# Altium schematic symbol library Regulators.SchLib: 376 symbols (part 3 of 4)
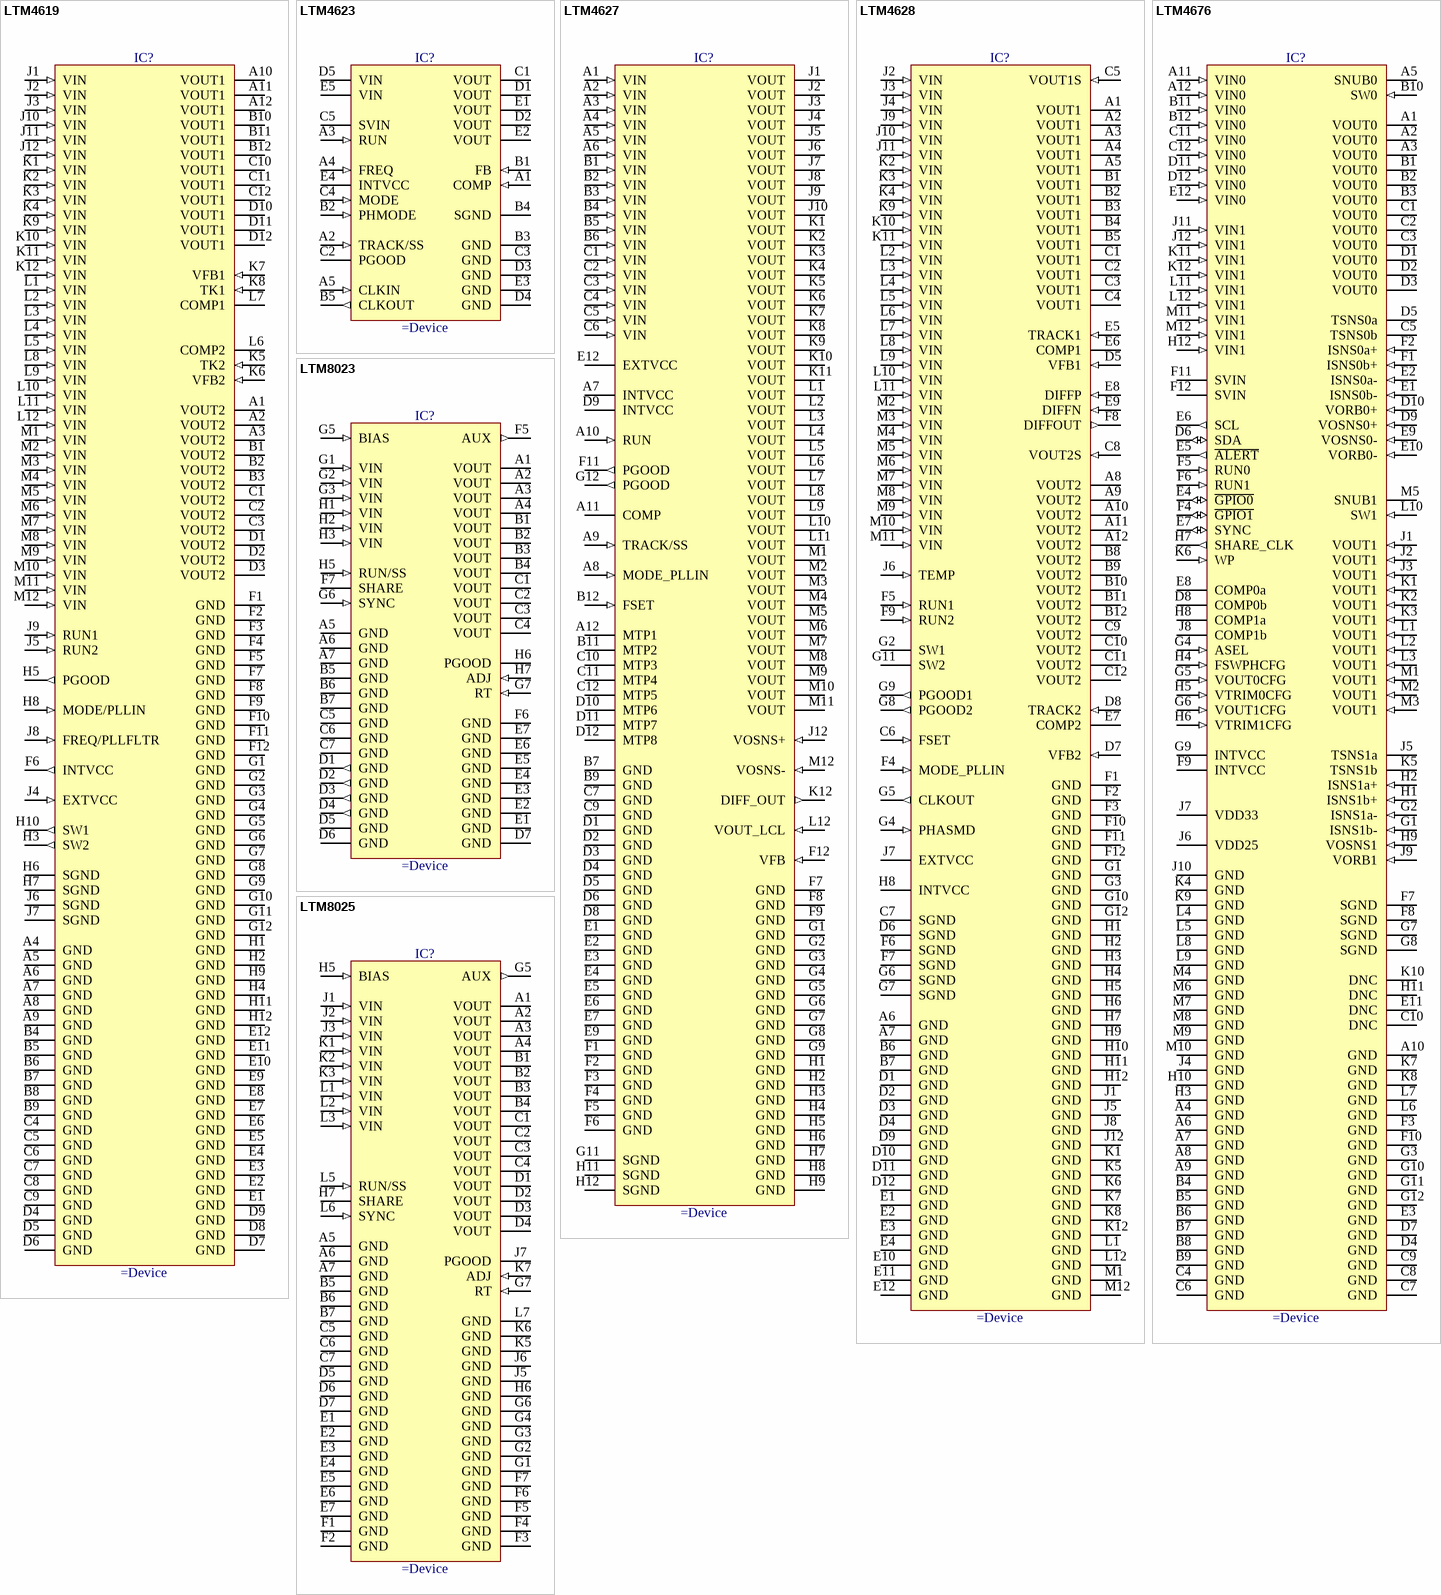
[diagram p14: symbols LTM4619 to LTM8025]

## LTM4628
designator IC?
4.5V-26.5V To 0.6V-5V, Dual 8A or Single 16A DC/DC μModule Regulator
pins: A1 VOUT1 (power) "Power Output Pins. Apply output load between these pins and GND pins. Recommend placing output decoupling capacitance directly between these pins and GND pins.", A2 VOUT1 (power) "Power Output Pins. Apply output load between these pins and GND pins. Recommend placing output decoupling capacitance directly between these pins and GND pins.", A3 VOUT1 (power) "Power Output Pins. Apply output load between these pins and GND pins. Recommend placing output decoupling capacitance directly between these pins and GND pins.", A4 VOUT1 (power) "Power Output Pins. Apply output load between these pins and GND pins. Recommend placing output decoupling capacitance directly between these pins and GND pins.", A5 VOUT1 (power) "Power Output Pins. Apply output load between these pins and GND pins. Recommend placing output decoupling capacitance directly between these pins and GND pins.", A6 GND (power) "Power Ground Pins for Both Input and Output Returns.", A7 GND (power) "Power Ground Pins for Both Input and Output Returns.", A8 VOUT2 (power) "Power Output Pins. Apply output load between these pins and GND pins. Recommend placing output decoupling capacitance directly between these pins and GND pins.", A9 VOUT2 (power) "Power Output Pins. Apply output load between these pins and GND pins. Recommend placing output decoupling capacitance directly between these pins and GND pins.", A10 VOUT2 (power) "Power Output Pins. Apply output load between these pins and GND pins. Recommend placing output decoupling capacitance directly between these pins and GND pins.", A11 VOUT2 (power) "Power Output Pins. Apply output load between these pins and GND pins. Recommend placing output decoupling capacitance directly between these pins and GND pins.", A12 VOUT2 (power) "Power Output Pins. Apply output load between these pins and GND pins. Recommend placing output decoupling capacitance directly between these pins and GND pins.", B1 VOUT1 (power) "Power Output Pins. Apply output load between these pins and GND pins. Recommend placing output decoupling capacitance directly between these pins and GND pins.", B2 VOUT1 (power) "Power Output Pins. Apply output load between these pins and GND pins. Recommend placing output decoupling capacitance directly between these pins and GND pins.", B3 VOUT1 (power) "Power Output Pins. Apply output load between these pins and GND pins. Recommend placing output decoupling capacitance directly between these pins and GND pins.", B4 VOUT1 (power) "Power Output Pins. Apply output load between these pins and GND pins. Recommend placing output decoupling capacitance directly between these pins and GND pins.", B5 VOUT1 (power) "Power Output Pins. Apply output load between these pins and GND pins. Recommend placing output decoupling capacitance directly between these pins and GND pins.", B6 GND (power) "Power Ground Pins for Both Input and Output Returns.", B7 GND (power) "Power Ground Pins for Both Input and Output Returns.", B8 VOUT2 (power) "Power Output Pins. Apply output load between these pins and GND pins. Recommend placing output decoupling capacitance directly between these pins and GND pins.", B9 VOUT2 (power) "Power Output Pins. Apply output load between these pins and GND pins. Recommend placing output decoupling capacitance directly between these pins and GND pins.", B10 VOUT2 (power) "Power Output Pins. Apply output load between these pins and GND pins. Recommend placing output decoupling capacitance directly between these pins and GND pins.", B11 VOUT2 (power) "Power Output Pins. Apply output load between these pins and GND pins. Recommend placing output decoupling capacitance directly between these pins and GND pins.", B12 VOUT2 (power) "Power Output Pins. Apply output load between these pins and GND pins. Recommend placing output decoupling capacitance directly between these pins and GND pins.", C1 VOUT1 (power) "Power Output Pins. Apply output load between these pins and GND pins. Recommend placing output decoupling capacitance directly between these pins and GND pins.", C2 VOUT1 (power) "Power Output Pins. Apply output load between these pins and GND pins. Recommend placing output decoupling capacitance directly between these pins and GND pins.", C3 VOUT1 (power) "Power Output Pins. Apply output load between these pins and GND pins. Recommend placing output decoupling capacitance directly between these pins and GND pins.", C4 VOUT1 (power) "Power Output Pins. Apply output load between these pins and GND pins. Recommend placing output decoupling capacitance directly between these pins and GND pins.", C5 VOUT1S (in) "This pin is connected to the top of the internal top feedback resistor for each output. The pin can be directly connected to its specific output, or connected to DIFFOUT when the remote sense amplifier is used. In (See Datasheet)", C6 FSET (in) "Frequency Set Pin. A 10uA current is sourced from this pin. A resistor from this pin to ground sets a voltage that in turn programs the operating frequency. Alternatively, this pin can be driven with a DC voltage that can (See Datasheet)", C7 SGND (power) "Signal Ground Pin. Return ground path for all analog and low power circuitry. Tie a single connection to the output capacitor GND in the application.", C8 VOUT2S (in) "This pin is connected to the top of the internal top feedback resistor for each output. The pin can be directly connected to its specific output, or connected to DIFFOUT when the remote sense amplifier is used. In (See Datasheet)", C9 VOUT2 (power) "Power Output Pins. Apply output load between these pins and GND pins. Recommend placing output decoupling capacitance directly between these pins and GND pins.", C10 VOUT2 (power) "Power Output Pins. Apply output load between these pins and GND pins. Recommend placing output decoupling capacitance directly between these pins and GND pins.", C11 VOUT2 (power) "Power Output Pins. Apply output load between these pins and GND pins. Recommend placing output decoupling capacitance directly between these pins and GND pins.", C12 VOUT2 (power) "Power Output Pins. Apply output load between these pins and GND pins. Recommend placing output decoupling capacitance directly between these pins and GND pins.", D1 GND (power) "Power Ground Pins for Both Input and Output Returns.", D2 GND (power) "Power Ground Pins for Both Input and Output Returns.", D3 GND (power) "Power Ground Pins for Both Input and Output Returns.", D4 GND (power) "Power Ground Pins for Both Input and Output Returns.", D5 VFB1 (in) "The Negative Input of the Error Amplifier for Each Channel. Internally, this pin is connected to VOUTS1 or VOUTS2 with a 60.4kohm precision resistor. Different output voltages can be programmed with an additional resistor (See Datasheet)", D6 SGND (power) "Signal Ground Pin. Return ground path for all analog and low power circuitry. Tie a single connection to the output capacitor GND in the application.", D7 VFB2 (in) "The Negative Input of the Error Amplifier for Each Channel. Internally, this pin is connected to VOUTS1 or VOUTS2 with a 60.4kohm precision resistor. Different output voltages can be programmed with an additional resistor (See Datasheet)", D8 TRACK2 (in) "Output Voltage Tracking Pin and Soft-Start Inputs. Each channel has a 1.3uA pull-up current source. When one channel is configured to be master of the two channels, then a capacitor from this pin to ground will set a (See Datasheet)", D9 GND (power) "Power Ground Pins for Both Input and Output Returns.", D10 GND (power) "Power Ground Pins for Both Input and Output Returns.", D11 GND (power) "Power Ground Pins for Both Input and Output Returns.", D12 GND (power) "Power Ground Pins for Both Input and Output Returns.", E1 GND (power) "Power Ground Pins for Both Input and Output Returns.", E2 GND (power) "Power Ground Pins for Both Input and Output Returns.", E3 GND (power) "Power Ground Pins for Both Input and Output Returns.", E4 GND (power) "Power Ground Pins for Both Input and Output Returns.", E5 TRACK1 (in) "Output Voltage Tracking Pin and Soft-Start Inputs. Each channel has a 1.3uA pull-up current source. When one channel is configured to be master of the two channels, then a capacitor from this pin to ground will set a (See Datasheet)", E6 COMP1 "Current control threshold and error amplifier compensation point for each channel. The current comparator threshold increases with this control voltage. Tie the COMP pins together for parallel operation. The device is (See Datasheet)", E7 COMP2 "Current control threshold and error amplifier compensation point for each channel. The current comparator threshold increases with this control voltage. Tie the COMP pins together for parallel operation. The device is (See Datasheet)", E8 DIFFP (in) "Positive input of the remote sense amplifier. This pin is connected to the remote sense point of the output voltage. See the Applications Information section.", E9 DIFFN (in) "Negative input of the remote sense amplifier. This pin is connected to the remote sense point of the output GND. See the Applications Information section.", E10 GND (power) "Power Ground Pins for Both Input and Output Returns.", E11 GND (power) "Power Ground Pins for Both Input and Output Returns.", E12 GND (power) "Power Ground Pins for Both Input and Output Returns.", F1 GND (power) "Power Ground Pins for Both Input and Output Returns.", F2 GND (power) "Power Ground Pins for Both Input and Output Returns.", F3 GND (power) "Power Ground Pins for Both Input and Output Returns.", F4 MODE_PLLIN (in) "Force Continuous Mode, Burst Mode Operation, or Pulse-Skipping Mode Selection Pin and External Synchronization Input to Phase Detector Pin. Connect this pin to SGND to force both channels into force continuous mode of (See Datasheet)", F5 RUN1 (in) "Run Control Pin. A voltage above 1.25V will turn on each channel in the module. A voltage below 1.25V on the RUN pin will turn off the related channel. Each RUN pin has a 1uA pull-up current, once the RUN pin reaches 1.2V an (See Datasheet)", F6 SGND (power) "Signal Ground Pin. Return ground path for all analog and low power circuitry. Tie a single connection to the output capacitor GND in the application.", F7 SGND (power) "Signal Ground Pin. Return ground path for all analog and low power circuitry. Tie a single connection to the output capacitor GND in the application.", F8 DIFFOUT (out) "Internal Remote Sense Amplifier Output. Connect this pin to VOUTS1 or VOUTS2 depending on which output is using remote sense. In parallel operation connect one of the VOUTS pin to DIFFOUT for remote sensing.", F9 RUN2 (in) "Run Control Pin. A voltage above 1.25V will turn on each channel in the module. A voltage below 1.25V on the RUN pin will turn off the related channel. Each RUN pin has a 1uA pull-up current, once the RUN pin reaches 1.2V an (See Datasheet)", F10 GND (power) "Power Ground Pins for Both Input and Output Returns.", F11 GND (power) "Power Ground Pins for Both Input and Output Returns.", F12 GND (power) "Power Ground Pins for Both Input and Output Returns.", G1 GND (power) "Power Ground Pins for Both Input and Output Returns.", G2 SW1 "Switching node of each channel that is used for testing purposes. Also an R-C snubber network can be applied to reduce or eliminate switch node ringing, or otherwise leave floating. See the Applications Information section.", G3 GND (power) "Power Ground Pins for Both Input and Output Returns.", G4 PHASMD (in) "Connect this pin to SGND, INTVCC, or floating this pin to select the phase of CLKOUT to 60 degrees, 120 degrees, and 90 degrees respectively.", G5 CLKOUT (out) "Clock output with phase control using the PHASMD pin to enable multiphase operation between devices. See the Applications Information section.", G6 SGND (power) "Signal Ground Pin. Return ground path for all analog and low power circuitry. Tie a single connection to the output capacitor GND in the application.", G7 SGND (power) "Signal Ground Pin. Return ground path for all analog and low power circuitry. Tie a single connection to the output capacitor GND in the application.", G8 PGOOD2 (out) "Output Voltage Power Good Indicator.", G9 PGOOD1 (out) "Output Voltage Power Good Indicator.", G10 GND (power) "Power Ground Pins for Both Input and Output Returns.", G11 SW2 "Switching node of each channel that is used for testing purposes. Also an R-C snubber network can be applied to reduce or eliminate switch node ringing, or otherwise leave floating. See the Applications Information section.", G12 GND (power) "Power Ground Pins for Both Input and Output Returns.", H1 GND (power) "Power Ground Pins for Both Input and Output Returns.", H2 GND (power) "Power Ground Pins for Both Input and Output Returns.", H3 GND (power) "Power Ground Pins for Both Input and Output Returns.", H4 GND (power) "Power Ground Pins for Both Input and Output Returns.", H5 GND (power) "Power Ground Pins for Both Input and Output Returns.", H6 GND (power) "Power Ground Pins for Both Input and Output Returns.", H7 GND (power) "Power Ground Pins for Both Input and Output Returns.", H8 INTVCC (power) "Internal 5V Regulator Output. The control circuits and internal gate drivers are powered from this voltage. Decouple this pin to PGND with a 4.7uF low ESR tantalum or ceramic. INTVCC is activated when either RUN1 or RUN2 is (See Datasheet)", H9 GND (power) "Power Ground Pins for Both Input and Output Returns.", H10 GND (power) "Power Ground Pins for Both Input and Output Returns.", H11 GND (power) "Power Ground Pins for Both Input and Output Returns.", H12 GND (power) "Power Ground Pins for Both Input and Output Returns.", J1 GND (power) "Power Ground Pins for Both Input and Output Returns.", J2 VIN (in) "Power Input Pins. Apply input voltage between these pins and GND pins. Recommend placing input decoupling capacitance directly between VIN pins and GND pins.", J3 VIN (in) "Power Input Pins. Apply input voltage between these pins and GND pins. Recommend placing input decoupling capacitance directly between VIN pins and GND pins.", J4 VIN (in) "Power Input Pins. Apply input voltage between these pins and GND pins. Recommend placing input decoupling capacitance directly between VIN pins and GND pins.", J5 GND (power) "Power Ground Pins for Both Input and Output Returns.", J6 TEMP (in) "Onboard Temperature Diode for Monitoring the VBE Junction Voltage Change with Temperature. See the Applications Information section.", J7 EXTVCC (power) "External power input that is enabled through a switch to INTVCC whenever EXTVCC is greater than 4.7V. Do not exceed 6V on this input, and connect this pin to VIN when operating VIN on 5V. An efficiency increase will occur (See Datasheet)", J8 GND (power) "Power Ground Pins for Both Input and Output Returns.", J9 VIN (in) "Power Input Pins. Apply input voltage between these pins and GND pins. Recommend placing input decoupling capacitance directly between VIN pins and GND pins.", J10 VIN (in) "Power Input Pins. Apply input voltage between these pins and GND pins. Recommend placing input decoupling capacitance directly between VIN pins and GND pins.", J11 VIN (in) "Power Input Pins. Apply input voltage between these pins and GND pins. Recommend placing input decoupling capacitance directly between VIN pins and GND pins.", J12 GND (power) "Power Ground Pins for Both Input and Output Returns.", K1 GND (power) "Power Ground Pins for Both Input and Output Returns.", K2 VIN (in) "Power Input Pins. Apply input voltage between these pins and GND pins. Recommend placing input decoupling capacitance directly between VIN pins and GND pins.", K3 VIN (in) "Power Input Pins. Apply input voltage between these pins and GND pins. Recommend placing input decoupling capacitance directly between VIN pins and GND pins.", K4 VIN (in) "Power Input Pins. Apply input voltage between these pins and GND pins. Recommend placing input decoupling capacitance directly between VIN pins and GND pins.", K5 GND (power) "Power Ground Pins for Both Input and Output Returns.", K6 GND (power) "Power Ground Pins for Both Input and Output Returns.", K7 GND (power) "Power Ground Pins for Both Input and Output Returns.", K8 GND (power) "Power Ground Pins for Both Input and Output Returns.", K9 VIN (in) "Power Input Pins. Apply input voltage between these pins and GND pins. Recommend placing input decoupling capacitance directly between VIN pins and GND pins.", K10 VIN (in) "Power Input Pins. Apply input voltage between these pins and GND pins. Recommend placing input decoupling capacitance directly between VIN pins and GND pins.", K11 VIN (in) "Power Input Pins. Apply input voltage between these pins and GND pins. Recommend placing input decoupling capacitance directly between VIN pins and GND pins.", K12 GND (power) "Power Ground Pins for Both Input and Output Returns.", L1 GND (power) "Power Ground Pins for Both Input and Output Returns.", L2 VIN (in) "Power Input Pins. Apply input voltage between these pins and GND pins. Recommend placing input decoupling capacitance directly between VIN pins and GND pins.", L3 VIN (in) "Power Input Pins. Apply input voltage between these pins and GND pins. Recommend placing input decoupling capacitance directly between VIN pins and GND pins.", L4 VIN (in) "Power Input Pins. Apply input voltage between these pins and GND pins. Recommend placing input decoupling capacitance directly between VIN pins and GND pins.", L5 VIN (in) "Power Input Pins. Apply input voltage between these pins and GND pins. Recommend placing input decoupling capacitance directly between VIN pins and GND pins.", L6 VIN (in) "Power Input Pins. Apply input voltage between these pins and GND pins. Recommend placing input decoupling capacitance directly between VIN pins and GND pins.", L7 VIN (in) "Power Input Pins. Apply input voltage between these pins and GND pins. Recommend placing input decoupling capacitance directly between VIN pins and GND pins.", L8 VIN (in) "Power Input Pins. Apply input voltage between these pins and GND pins. Recommend placing input decoupling capacitance directly between VIN pins and GND pins.", L9 VIN (in) "Power Input Pins. Apply input voltage between these pins and GND pins. Recommend placing input decoupling capacitance directly between VIN pins and GND pins.", L10 VIN (in) "Power Input Pins. Apply input voltage between these pins and GND pins. Recommend placing input decoupling capacitance directly between VIN pins and GND pins.", L11 VIN (in) "Power Input Pins. Apply input voltage between these pins and GND pins. Recommend placing input decoupling capacitance directly between VIN pins and GND pins.", L12 GND (power) "Power Ground Pins for Both Input and Output Returns.", M1 GND (power) "Power Ground Pins for Both Input and Output Returns.", M2 VIN (in) "Power Input Pins. Apply input voltage between these pins and GND pins. Recommend placing input decoupling capacitance directly between VIN pins and GND pins.", M3 VIN (in) "Power Input Pins. Apply input voltage between these pins and GND pins. Recommend placing input decoupling capacitance directly between VIN pins and GND pins.", M4 VIN (in) "Power Input Pins. Apply input voltage between these pins and GND pins. Recommend placing input decoupling capacitance directly between VIN pins and GND pins.", M5 VIN (in) "Power Input Pins. Apply input voltage between these pins and GND pins. Recommend placing input decoupling capacitance directly between VIN pins and GND pins.", M6 VIN (in) "Power Input Pins. Apply input voltage between these pins and GND pins. Recommend placing input decoupling capacitance directly between VIN pins and GND pins.", M7 VIN (in) "Power Input Pins. Apply input voltage between these pins and GND pins. Recommend placing input decoupling capacitance directly between VIN pins and GND pins.", M8 VIN (in) "Power Input Pins. Apply input voltage between these pins and GND pins. Recommend placing input decoupling capacitance directly between VIN pins and GND pins.", M9 VIN (in) "Power Input Pins. Apply input voltage between these pins and GND pins. Recommend placing input decoupling capacitance directly between VIN pins and GND pins.", M10 VIN (in) "Power Input Pins. Apply input voltage between these pins and GND pins. Recommend placing input decoupling capacitance directly between VIN pins and GND pins.", M11 VIN (in) "Power Input Pins. Apply input voltage between these pins and GND pins. Recommend placing input decoupling capacitance directly between VIN pins and GND pins.", M12 GND (power) "Power Ground Pins for Both Input and Output Returns."

## LTM4676
designator IC?
4.5V-26.5V To 0.5V-5.4V, Dual 13A or Single 26A uModule Regulator with Digital Power System Management
pins: A1 VOUT0 (power), A2 VOUT0 (power), A3 VOUT0 (power), A4 GND (power), A5 SNUB0, A6 GND (power), A7 GND (power), A8 GND (power), A9 GND (power), A10 GND (power), A11 VIN0 (in), A12 VIN0 (in), B1 VOUT0 (power), B2 VOUT0 (power), B3 VOUT0 (power), B4 GND (power), B5 GND (power), B6 GND (power), B7 GND (power), B8 GND (power), B9 GND (power), B10 SW0 (in), B11 VIN0 (in), B12 VIN0 (in), C1 VOUT0 (power), C2 VOUT0 (power), C3 VOUT0 (power), C4 GND (power), C5 TSNS0b, C6 GND (power), C7 GND (power), C8 GND (power), C9 GND (power), C10 DNC, C11 VIN0 (in), C12 VIN0 (in), D1 VOUT0 (power), D2 VOUT0 (power), D3 VOUT0 (power), D4 GND (power), D5 TSNS0a, D6 SDA (io), D7 GND (power), D8 COMP0b, D9 VOSNS0+ (in), D10 VORB0+ (in), D11 VIN0 (in), D12 VIN0 (in), E1 ISNS0b- (in), E2 ISNS0a- (in), E3 GND (power), E4 ~{GPIO0} (io), E5 ~{ALERT} (out), E6 SCL (out), E7 SYNC (io), E8 COMP0a, E9 VOSNS0- (in), E10 VORB0- (in), E11 DNC, E12 VIN0 (in), F1 ISNS0b+ (in), F2 ISNS0a+ (in), F3 GND (power), F4 ~{GPIO1} (io), F5 RUN0 (in), F6 RUN1 (in), F7 SGND (power), F8 SGND (power), F9 INTVCC (power), F10 GND (power), F11 SVIN (power), F12 SVIN (power), G1 ISNS1b- (in), G2 ISNS1a- (in), G3 GND (power), G4 ASEL (in), G5 VOUT0CFG (in), G6 VOUT1CFG (in), G7 SGND (power), G8 SGND (power), G9 INTVCC (power), G10 GND (power), G11 GND (power), G12 GND (power), H1 ISNS1b+ (in), H2 ISNS1a+ (in), H3 GND (power), H4 FSWPHCFG (in), H5 VTRIM0CFG (in), H6 VTRIM1CFG (in), H7 SHARE_CLK (out), H8 COMP1a, H9 VOSNS1 (in), H10 GND (power), H11 DNC, H12 VIN1 (in), J1 VOUT1 (in), J2 VOUT1 (in), J3 VOUT1 (in), J4 GND (power), J5 TSNS1a, J6 VDD25 (power), J7 VDD33 (power), J8 COMP1b, J9 VORB1 (in), J10 GND (power), J11 VIN1 (in), J12 VIN1 (in), K1 VOUT1 (in), K2 VOUT1 (in), K3 VOUT1 (in), K4 GND (power), K5 TSNS1b, K6 WP (in), K7 GND (power), K8 GND (power), K9 GND (power), K10 DNC, K11 VIN1 (in), K12 VIN1 (in), L1 VOUT1 (in), L2 VOUT1 (in), L3 VOUT1 (in), L4 GND (power), L5 GND (power), L6 GND (power), L7 GND (power), L8 GND (power), L9 GND (power), L10 SW1 (in), L11 VIN1 (in), L12 VIN1 (in), M1 VOUT1 (in), M2 VOUT1 (in), M3 VOUT1 (in), M4 GND (power), M5 SNUB1, M6 GND (power), M7 GND (power), M8 GND (power), M9 GND (power), M10 GND (power), M11 VIN1 (in), M12 VIN1 (in)

## LTM8023
designator IC?
3.6V-36V To 0.8V-10V, Iout 2A DC/DC uModule
pins: A1 VOUT (power), A2 VOUT (power), A3 VOUT (power), A4 VOUT (power), A5 GND (power), A6 GND (power), A7 GND (power), B1 VOUT (power), B2 VOUT (power), B3 VOUT (power), B4 VOUT (power), B5 GND (power), B6 GND (power), B7 GND (power), C1 VOUT (power), C2 VOUT (power), C3 VOUT (power), C4 VOUT (power), C5 GND (power), C6 GND (power), C7 GND (power), D1 GND (out), D2 GND (out), D3 GND (out), D4 GND (out), D5 GND (power), D6 GND (power), D7 GND (power), E1 GND (power), E2 GND (power), E3 GND (power), E4 GND (power), E5 GND (power), E6 GND (power), E7 GND (power), F5 AUX (out), F6 GND (power), F7 SHARE, G1 VIN (in), G2 VIN (in), G3 VIN (in), G5 BIAS (in), G6 SYNC (in), G7 RT (in), H1 VIN (in), H2 VIN (in), H3 VIN (in), H5 RUN/SS (in), H6 PGOOD (oc), H7 ADJ (in)

## LTM8025
designator IC?
3.6V-36V To 0.8V-24V, Iout 3A Step Down uModule® Converter
pins: A1 VOUT (power), A2 VOUT (power), A3 VOUT (power), A4 VOUT (power), A5 GND (power), A6 GND (power), A7 GND (power), B1 VOUT (power), B2 VOUT (power), B3 VOUT (power), B4 VOUT (power), B5 GND (power), B6 GND (power), B7 GND (power), C1 VOUT (power), C2 VOUT (power), C3 VOUT (power), C4 VOUT (power), C5 GND (power), C6 GND (power), C7 GND (power), D1 VOUT (power), D2 VOUT (power), D3 VOUT (power), D4 VOUT (power), D5 GND (power), D6 GND (power), D7 GND (power), E1 GND (power), E2 GND (power), E3 GND (power), E4 GND (power), E5 GND (power), E6 GND (power), E7 GND (power), F1 GND (power), F2 GND (power), F3 GND (power), F4 GND (power), F5 GND (power), F6 GND (power), F7 GND (power), G1 GND (power), G2 GND (power), G3 GND (power), G4 GND (power), G5 AUX (out), G6 GND (power), G7 RT (in), H5 BIAS (in), H6 GND (power), H7 SHARE, J1 VIN (in), J2 VIN (in), J3 VIN (in), J5 GND (power), J6 GND (power), J7 PGOOD (oc), K1 VIN (in), K2 VIN (in), K3 VIN (in), K5 GND (power), K6 GND (power), K7 ADJ (in), L1 VIN (in), L2 VIN (in), L3 VIN (in), L5 RUN/SS (in), L6 SYNC (in), L7 GND (power)

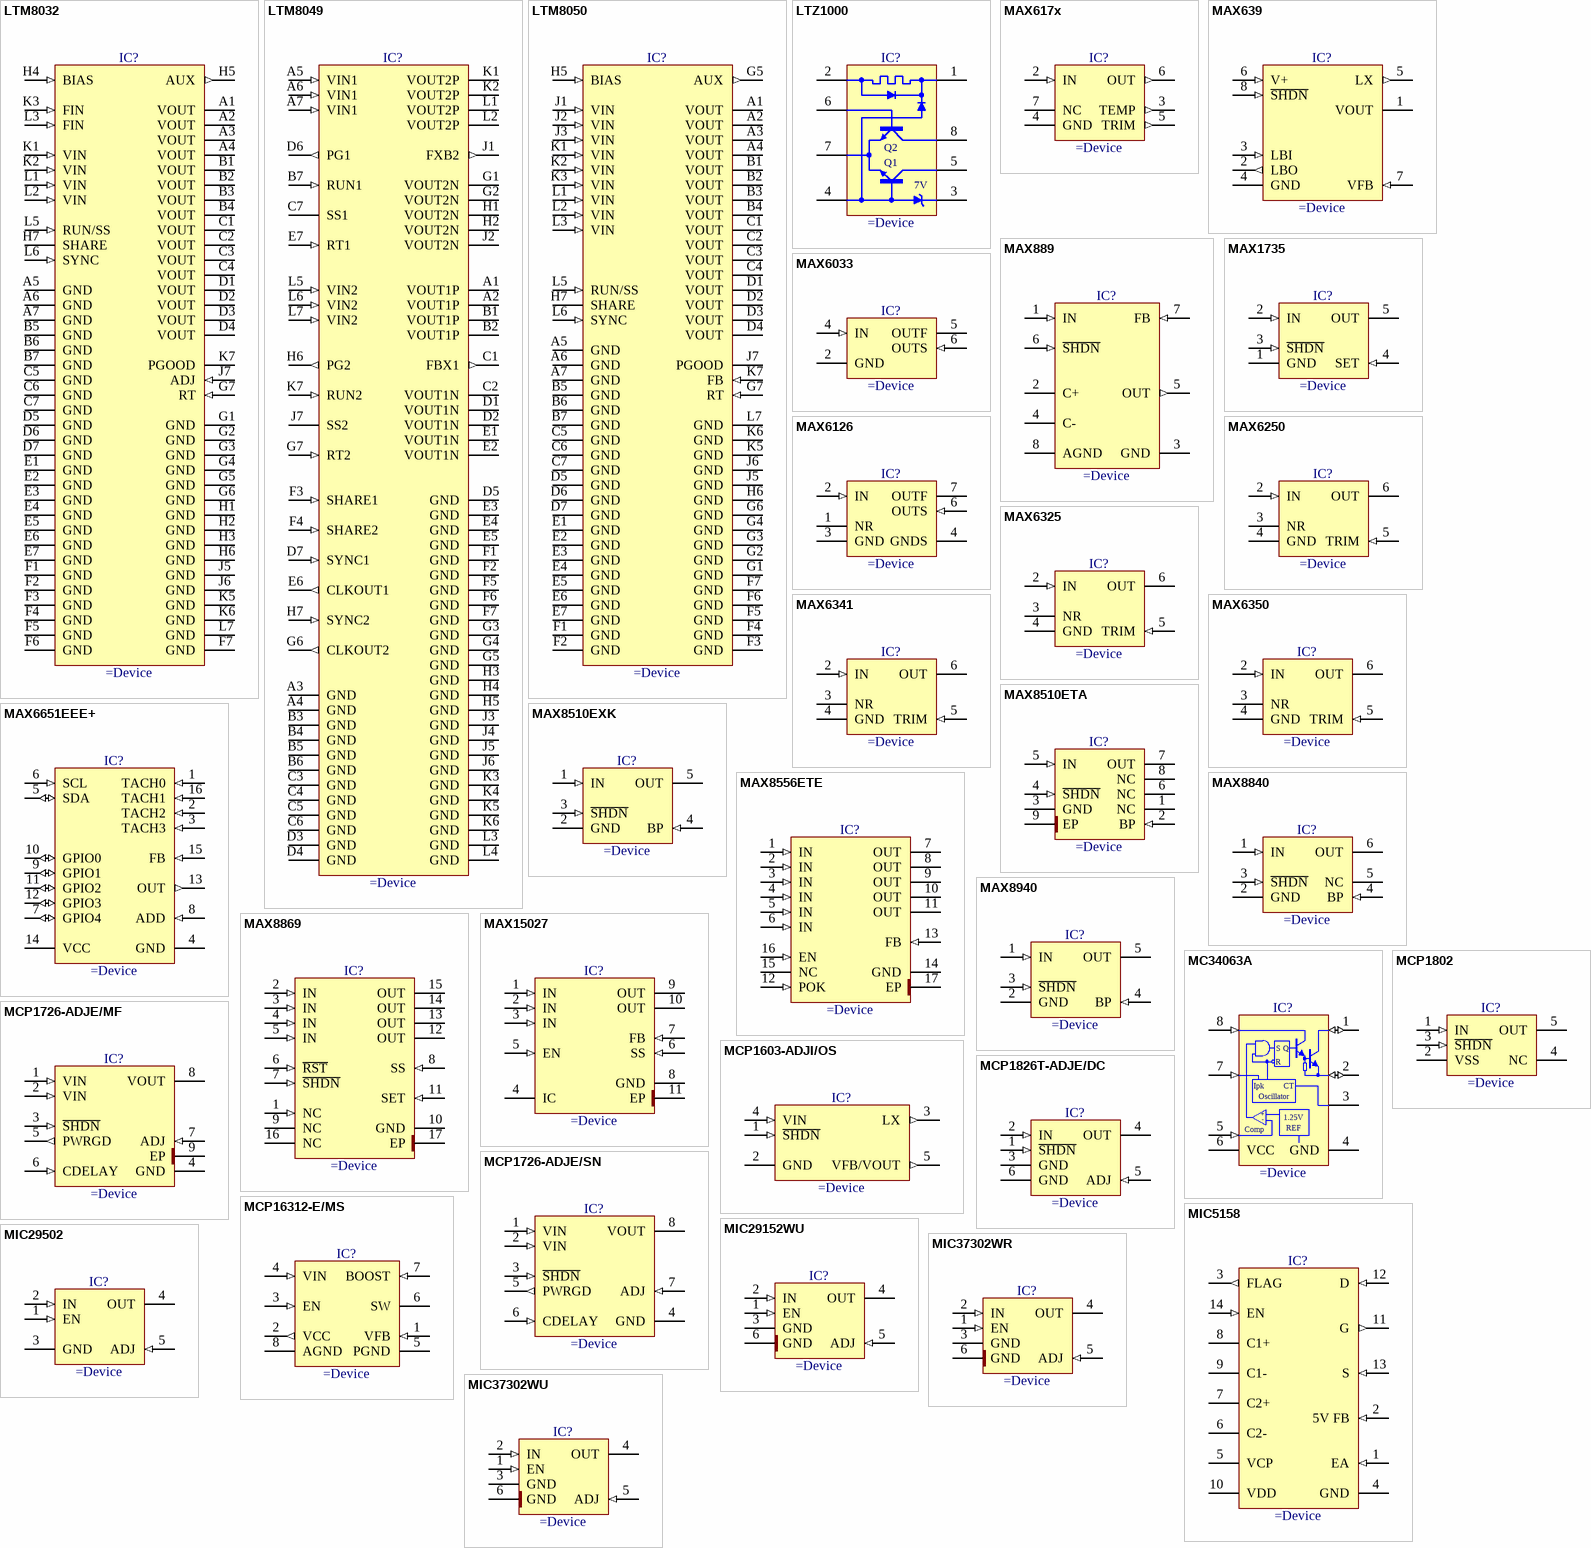
[diagram p7: symbols LTM8032 to MIC37302WU]

## LTM8032
designator IC?
3V-36V To 0.8V-10V, Iout 2A Ultralow Noise EMC Compliant DC/DC uModule
pins: A1 VOUT (power), A2 VOUT (power), A3 VOUT (power), A4 VOUT (power), A5 GND (power), A6 GND (power), A7 GND (power), B1 VOUT (power), B2 VOUT (power), B3 VOUT (power), B4 VOUT (power), B5 GND (power), B6 GND (power), B7 GND (power), C1 VOUT (power), C2 VOUT (power), C3 VOUT (power), C4 VOUT (power), C5 GND (power), C6 GND (power), C7 GND (power), D1 VOUT (power), D2 VOUT (power), D3 VOUT (power), D4 VOUT (power), D5 GND (power), D6 GND (power), D7 GND (power), E1 GND (power), E2 GND (power), E3 GND (power), E4 GND (power), E5 GND (power), E6 GND (power), E7 GND (power), F1 GND (power), F2 GND (power), F3 GND (power), F4 GND (power), F5 GND (power), F6 GND (power), F7 GND (power), G1 GND (power), G2 GND (power), G3 GND (power), G4 GND (power), G5 GND (power), G6 GND (power), G7 RT (in), H1 GND (power), H2 GND (power), H3 GND (power), H4 BIAS (in), H5 AUX (out), H6 GND (power), H7 SHARE, J5 GND (power), J6 GND (power), J7 ADJ (in), K1 VIN (in), K2 VIN (in), K3 FIN (in), K5 GND (power), K6 GND (power), K7 PGOOD (oc), L1 VIN (in), L2 VIN (in), L3 FIN (in), L5 RUN/SS (in), L6 SYNC (in), L7 GND (power)

## LTM8049
designator IC?
Dual SEPIC or Inverting uModule DC/DC Converter
pins: A1 VOUT1P (power), A2 VOUT1P (power), A3 GND (power), A4 GND (power), A5 VIN1 (in), A6 VIN1 (in), A7 VIN1 (in), B1 VOUT1P (power), B2 VOUT1P (power), B3 GND (power), B4 GND (power), B5 GND (power), B6 GND (power), B7 RUN1 (in), C1 FBX1 (out), C2 VOUT1N (power), C3 GND (power), C4 GND (power), C5 GND (power), C6 GND (power), C7 SS1, D1 VOUT1N (power), D2 VOUT1N (power), D3 GND (power), D4 GND (power), D5 GND (power), D6 PG1 (out), D7 SYNC1 (in), E1 VOUT1N (power), E2 VOUT1N (power), E3 GND (power), E4 GND (power), E5 GND (power), E6 CLKOUT1 (out), E7 RT1 (in), F1 GND (power), F2 GND (power), F3 SHARE1 (in), F4 SHARE2 (in), F5 GND (power), F6 GND (power), F7 GND (power), G1 VOUT2N (power), G2 VOUT2N (power), G3 GND (power), G4 GND (power), G5 GND (power), G6 CLKOUT2 (out), G7 RT2 (in), H1 VOUT2N (power), H2 VOUT2N (power), H3 GND (power), H4 GND (power), H5 GND (power), H6 PG2 (out), H7 SYNC2 (in), J1 FXB2 (out), J2 VOUT2N (power), J3 GND (power), J4 GND (power), J5 GND (power), J6 GND (power), J7 SS2, K1 VOUT2P (power), K2 VOUT2P (power), K3 GND (power), K4 GND (power), K5 GND (power), K6 GND (power), K7 RUN2 (in), L1 VOUT2P (power), L2 VOUT2P (power), L3 GND (power), L4 GND (power), L5 VIN2 (in), L6 VIN2 (in), L7 VIN2 (in)

## LTM8050
designator IC?
58V, 2A Step-Down uModule Regulator
pins: A1 VOUT (power), A2 VOUT (power), A3 VOUT (power), A4 VOUT (power), A5 GND (power), A6 GND (power), A7 GND (power), B1 VOUT (power), B2 VOUT (power), B3 VOUT (power), B4 VOUT (power), B5 GND (power), B6 GND (power), B7 GND (power), C1 VOUT (power), C2 VOUT (power), C3 VOUT (power), C4 VOUT (power), C5 GND (power), C6 GND (power), C7 GND (power), D1 VOUT (power), D2 VOUT (power), D3 VOUT (power), D4 VOUT (power), D5 GND (power), D6 GND (power), D7 GND (power), E1 GND (power), E2 GND (power), E3 GND (power), E4 GND (power), E5 GND (power), E6 GND (power), E7 GND (power), F1 GND (power), F2 GND (power), F3 GND (power), F4 GND (power), F5 GND (power), F6 GND (power), F7 GND (power), G1 GND (power), G2 GND (power), G3 GND (power), G4 GND (power), G5 AUX (out), G6 GND (power), G7 RT (in), H5 BIAS (in), H6 GND (power), H7 SHARE, J1 VIN (in), J2 VIN (in), J3 VIN (in), J5 GND (power), J6 GND (power), J7 PGOOD (oc), K1 VIN (in), K2 VIN (in), K3 VIN (in), K5 GND (power), K6 GND (power), K7 FB (in), L1 VIN (in), L2 VIN (in), L3 VIN (in), L5 RUN/SS (in), L6 SYNC (in), L7 GND (power)

## LTZ1000
designator IC?
7V Ultra Precision Reference
pins: 1, 2, 3, 4, 5 (oc), 6, 7 (oe), 8 (oc)
text: Q2; Q1; 7V

## MAX617x
designator IC?
High-Precision Voltage Reference with Temperature Sensor
pins: 2 IN (in), 3 TEMP (out), 4 GND (power), 5 TRIM (out), 6 OUT (out), 7 NC

## MAX639
designator IC?
4V-11.5V To 5V, Iout 225mA, High-Efficiency, Low Iq, Step-Down DC-DC Converter
pins: 1 VOUT (power), 2 LBO (out), 3 LBI (in), 4 GND (power), 5 LX (out), 6 V+ (in), 7 VFB (in), 8 ~{SHDN} (in)

## MAX889
designator IC?
High-Frequency, Regulated, 200mA, Inverting Charge Pump
pins: 1 IN (in), 2 C+, 3 GND (power), 4 C-, 5 OUT (out), 6 ~{SHDN} (in), 7 FB (in), 8 AGND (power)

## MAX1735
designator IC?
200mA, Negative-Output, Low-Dropout Linear Regulator
pins: 1 GND (power), 2 IN (in), 3 ~{SHDN} (in), 4 SET (in), 5 OUT (power)

## MAX6033
designator IC?
Ultra-High-Precision Voltage References
pins: 2 GND (power), 4 IN (in), 5 OUTF (power), 6 OUTS (in)

## MAX6126
designator IC?
Ultra-High-Precision, Ultra-Low-Noise, Voltage Reference
pins: 1 NR, 2 IN (in), 3 GND (power), 4 GNDS (power), 6 OUTS (in), 7 OUTF (power)

## MAX6250
designator IC?
1ppm/°C, Low-Noise, Precision, +5.000V Voltage Reference
pins: 2 IN (in), 3 NR, 4 GND (power), 5 TRIM (in), 6 OUT (power)

## MAX6325
designator IC?
1ppm/°C, Low-Noise, +2.500V Voltage References
pins: 2 IN (in), 3 NR, 4 GND (power), 5 TRIM (in), 6 OUT (power)

## MAX6341
designator IC?
1ppm/°C, Low-Noise, +4.096V Voltage References
pins: 2 IN (in), 3 NR, 4 GND (power), 5 TRIM (in), 6 OUT (power)

## MAX6350
designator IC?
1ppm/°C, Low-Noise, +5.000V Voltage References
pins: 2 IN (in), 3 NR, 4 GND (power), 5 TRIM (in), 6 OUT (power)

## MAX6651EEE+
designator IC?
Fan-Speed Regulators and Monitors with SMBus/I²C-Compatible Interface
pins: 1 TACH0 (in), 2 TACH2 (in), 3 TACH3 (in), 4 GND (power), 5 SDA (io), 6 SCL (in), 7 GPIO4 (io), 8 ADD (in), 9 GPIO1 (io), 10 GPIO0 (io), 11 GPIO2 (io), 12 GPIO3 (io), 13 OUT (out), 14 VCC (power), 15 FB (in), 16 TACH1 (in)

## MAX8510ETA
designator IC?
Ultra-Low-Noise, High PSRR, Low-Dropout, 120mA Linear Regulator
pins: 1 NC, 2 BP (in), 3 GND (power), 4 ~{SHDN} (in), 5 IN (in), 6 NC, 7 OUT (power), 8 NC, 9 EP (power)

## MAX8510EXK
designator IC?
Ultra-Low-Noise, High PSRR, Low-Dropout, 120mA Linear Regulator
pins: 1 IN (in), 2 GND (power), 3 ~{SHDN} (in), 4 BP (in), 5 OUT (power)

## MAX8556ETE
designator IC?
4A Ultra-Low-Input-Voltage LDO Regulator
pins: 1 IN (in), 2 IN (in), 3 IN (in), 4 IN (in), 5 IN (in), 6 IN (in), 7 OUT (power), 8 OUT (power), 9 OUT (power), 10 OUT (power), 11 OUT (power), 12 POK (in), 13 FB (in), 14 GND (power), 15 NC, 16 EN (in), 17 EP (power)

## MAX8840
designator IC?
Low-Noise, High PSRR, Low-Dropout, 120mA Linear Regulator
pins: 1 IN (in), 2 GND (power), 3 ~{SHDN} (in), 4 BP (in), 5 NC, 6 OUT (power)

## MAX8869
designator IC?
1A, Microcap, Low-Dropout, Linear Regulator
pins: 1 NC (in), 2 IN (in), 3 IN (in), 4 IN (in), 5 IN (in), 6 ~{RST} (in), 7 ~{SHDN} (in), 8 SS (in), 9 NC, 10 GND (power), 11 SET (in), 12 OUT (power), 13 OUT (power), 14 OUT (power), 15 OUT (power), 16 NC, 17 EP (power)

## MAX8940
designator IC?
Low-Noise, High PSRR, Low-Dropout, 120mA Linear Regulator
pins: 1 IN (in), 2 GND (power), 3 ~{SHDN} (in), 4 BP (in), 5 OUT (power)

## MAX15027
designator IC?
1.425V to 3.6V Input, 1A Low-Dropout Regulators with BIAS Input
pins: 1 IN (in), 2 IN (in), 3 IN (in), 4 IC (power), 5 EN (in), 6 SS (in), 7 FB (in), 8 GND (power), 9 OUT (power), 10 OUT (power), 11 EP (power)

## MC34063A
designator IC?
3V to 40V 1.5A Peak Boost/Buck/Inverting Switching Regulator
pins: 1 SWC (io), 2 SWE (io), 3 TC, 4 GND (power), 5 COMP (in), 6 VCC (power), 7 Ipk (in), 8 DRVC (in)
text: S; Q; R; CT; Oscillator; +; -; 1.25V; Comp; REF

## MCP1603-ADJI/OS
designator IC?
0.8V to 4.5V, 500mA, 2.0 MHz, Adjustable Synchronous Buck Regulator
pins: 1 ~{SHDN} (in), 2 GND (power), 3 LX (out), 4 VIN (in), 5 VFB/VOUT (out)

## MCP1726-ADJE/MF
designator IC?
1A, 0.8V to 5.0V Adjustable , Low Quiescent Current LDO Regulator
pins: 1 VIN (in), 2 VIN (in), 3 ~{SHDN} (in), 4 GND (power), 5 PWRGD (out), 6 CDELAY (in), 7 ADJ (in), 8 VOUT (power), 9 EP (power)

## MCP1726-ADJE/SN
designator IC?
1A, 0.8V to 5.0V Adjustable , Low Quiescent Current LDO Regulator
pins: 1 VIN (in), 2 VIN (in), 3 ~{SHDN} (in), 4 GND (power), 5 PWRGD (out), 6 CDELAY (in), 7 ADJ (in), 8 VOUT (power)

## MCP1802
designator IC?
300mA, High PSRR, Low Quiescent Current LDO
pins: 1 IN (in), 2 VSS (power), 3 ~{SHDN} (in), 4 NC, 5 OUT (power)

## MCP1826T-ADJE/DC
designator IC?
0.8V to 5.0V, 1A Low Voltage, Low Quiescent Current, Adjustable Positive LDO Regulator
pins: 1 ~{SHDN} (in), 2 IN (in), 3 GND (power), 4 OUT (power), 5 ADJ (in), 6 GND (power)

## MCP16312-E/MS
designator IC?
30V Input, 1A Output, High-Efficiency, Integrated Synchronous Switch Step-Down Regulator
pins: 1 VFB (in), 2 VCC (out), 3 EN (in), 4 VIN (in), 5 PGND (power), 6 SW (power), 7 BOOST (in), 8 AGND (power)

## MIC5158
designator IC?
Super LDO Regulator Controller
pins: 1 EA (in), 2 5V FB (in), 3 FLAG (out), 4 GND (power), 5 VCP, 6 C2-, 7 C2+, 8 C1+, 9 C1-, 10 VDD (power), 11 G (out), 12 D (in), 13 S (in), 14 EN (in)

## MIC29152WU
designator IC?
1.25V to 26V, 1.5A Low Dropout Adjustable Regulator
pins: 1 EN (in), 2 IN (in), 3 GND (power), 4 OUT (power), 5 ADJ (in), 6 GND (power)

## MIC29502
designator IC?
1.25V to 26V Adjustable, 5A, High-Current Low-Dropout Regulator
pins: 1 EN (in), 2 IN (in), 3 GND (power), 4 OUT (power), 5 ADJ (in)

## MIC37302WR
designator IC?
3.0A Low Voltage µCap LDO Regulator
pins: 1 EN (in), 2 IN (in), 3 GND (power), 4 OUT (power), 5 ADJ (in), 6 GND (power)

## MIC37302WU
designator IC?
3.0A Low Voltage µCap LDO Regulator
pins: 1 EN (in), 2 IN (in), 3 GND (power), 4 OUT (power), 5 ADJ (in), 6 GND (power)

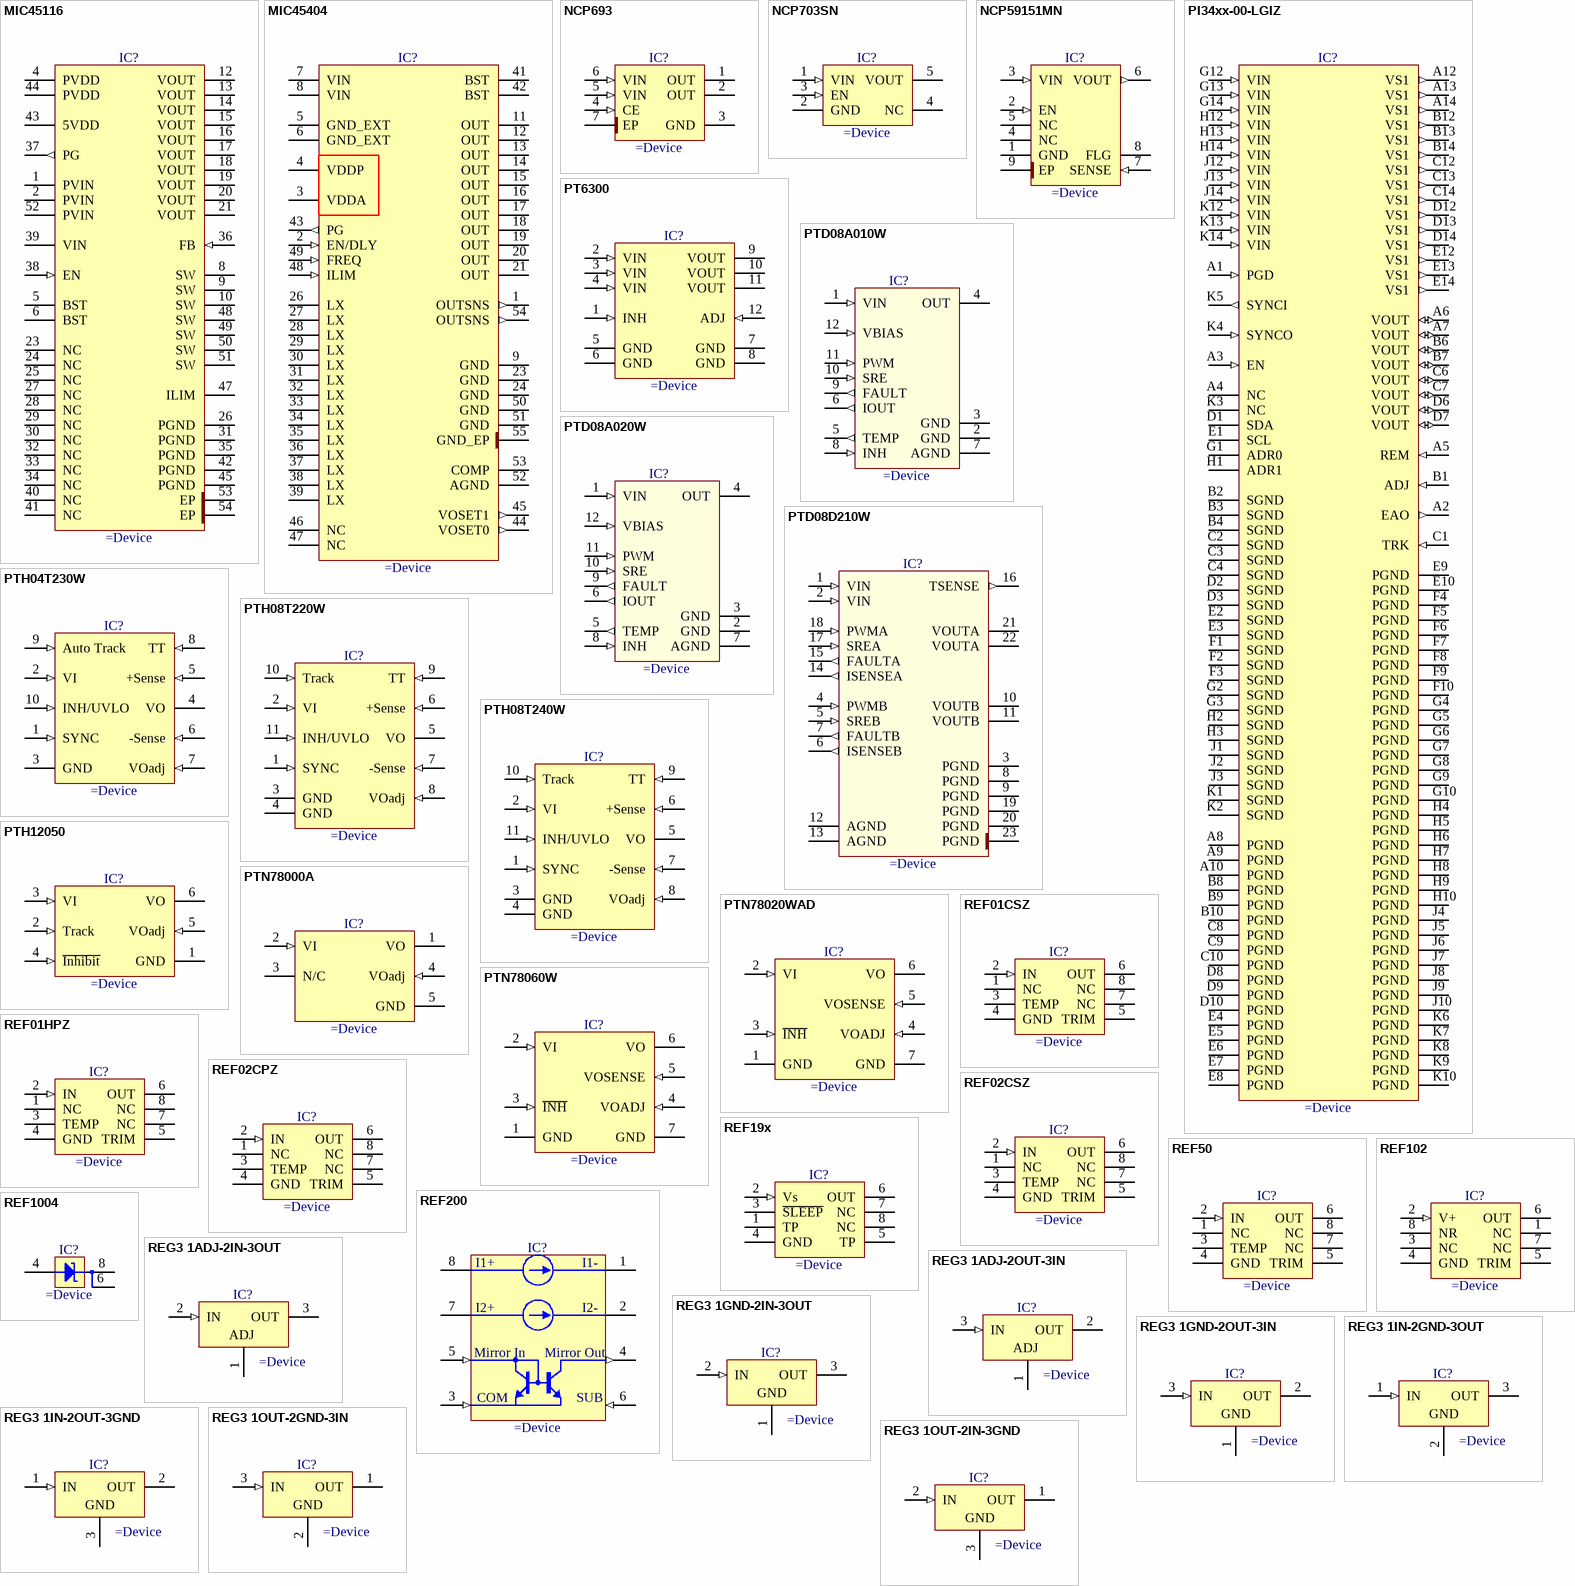
[diagram p8: symbols MIC45116 to REG3 1OUT-2IN-3GND]

## MIC45116
designator IC?
0.8V to 85% PVIN (4.75-19V), 6A Synchronous Step-Down Regulator Module
pins: 1 PVIN (power), 2 PVIN (power), 4 PVDD (power), 5 BST, 6 BST, 8 SW, 9 SW, 10 SW, 12 VOUT (power), 13 VOUT (power), 14 VOUT (power), 15 VOUT (power), 16 VOUT (power), 17 VOUT (power), 18 VOUT (power), 19 VOUT (power), 20 VOUT (power), 21 VOUT (power), 23 NC, 24 NC, 25 NC, 26 PGND (power), 27 NC, 28 NC, 29 NC, 30 NC, 31 PGND (power), 32 NC, 33 NC, 34 NC, 35 PGND (power), 36 FB (in), 37 PG (out), 38 EN (in), 39 VIN (power), 40 NC, 41 NC, 42 PGND (power), 43 5VDD (power), 44 PVDD (power), 45 PGND (power), 47 ILIM, 48 SW, 49 SW, 50 SW, 51 SW, 52 PVIN (power), 53 EP (power), 54 EP (power)

## MIC45404
designator IC?
4.5-19VDC to 0.7-3.3VDC 5A, Ultra-Low Profile DC-to-DC Power Module
pins: 1 OUTSNS (out), 2 EN/DLY (in), 3 VDDA (power), 4 VDDP (power), 5 GND_EXT (power), 6 GND_EXT (power), 7 VIN (power), 8 VIN (power), 9 GND (power), 11 OUT (power), 12 OUT (power), 13 OUT (power), 14 OUT (power), 15 OUT (power), 16 OUT (power), 17 OUT (power), 18 OUT (power), 19 OUT (power), 20 OUT (power), 21 OUT (power), 23 GND (power), 24 GND (power), 26 LX, 27 LX, 28 LX, 29 LX, 30 LX, 31 LX, 32 LX, 33 LX, 34 LX, 35 LX, 36 LX, 37 LX, 38 LX, 39 LX, 41 BST, 42 BST, 43 PG (out), 44 VOSET0 (out), 45 VOSET1 (out), 46 NC, 47 NC, 48 ILIM (in), 49 FREQ (in), 50 GND (power), 51 GND (power), 52 AGND (power), 53 COMP (power), 54 OUTSNS (out), 55 GND_EP (power)

## NCP693
designator IC?
1V, 1A Low-Dropout Voltage Regulator
pins: 1 OUT (power), 2 OUT (power), 3 GND (power), 4 CE (in), 5 VIN (in), 6 VIN (in), 7 EP (power)

## NCP703SN
designator IC?
3.3V 300mA, Ultra-Low Quiescent Current, IQ 12uA, Ultra-Low Noise, LDO Voltage Regulator
pins: 1 VIN (in), 2 GND (power), 3 EN (in), 4 NC, 5 VOUT (power)

## NCP59151MN
designator IC?
1.5 A, Very Low-Dropout (VLDO) Fast Transient Response Regulator
pins: 1 GND (power), 2 EN (in), 3 VIN (in), 4 NC, 5 NC, 6 VOUT (out), 7 SENSE (in), 8 FLG (oc), 9 EP (power)

## PI34xx-00-LGIZ
designator IC?
8 V to 18 Vin, 15 A Cool-Power ZVS Buck Regulator
pins: A1 PGD (in), A2 EAO (out), A3 EN (in), A4 NC (power), A5 REM (in), A6 VOUT (io), A7 VOUT (io), A8 PGND (power), A9 PGND (power), A10 PGND (power), A12 VS1 (out), A13 VS1 (out), A14 VS1 (out), B1 ADJ (in), B2 SGND (power), B3 SGND (power), B4 SGND (power), B6 VOUT (io), B7 VOUT (io), B8 PGND (power), B9 PGND (power), B10 PGND (power), B12 VS1 (out), B13 VS1 (out), B14 VS1 (out), C1 TRK (in), C2 SGND (power), C3 SGND (power), C4 SGND (power), C6 VOUT (io), C7 VOUT (io), C8 PGND (power), C9 PGND (power), C10 PGND (power), C12 VS1 (out), C13 VS1 (out), C14 VS1 (out), D1 SDA, D2 SGND (power), D3 SGND (power), D6 VOUT (io), D7 VOUT (io), D8 PGND (power), D9 PGND (power), D10 PGND (power), D12 VS1 (out), D13 VS1 (out), D14 VS1 (out), E1 SCL, E2 SGND (power), E3 SGND (power), E4 PGND (power), E5 PGND (power), E6 PGND (power), E7 PGND (power), E8 PGND (power), E9 PGND (power), E10 PGND (power), E12 VS1 (out), E13 VS1 (out), E14 VS1 (out), F1 SGND (power), F2 SGND (power), F3 SGND (power), F4 PGND (power), F5 PGND (power), F6 PGND (power), F7 PGND (power), F8 PGND (power), F9 PGND (power), F10 PGND (power), G1 ADR0, G2 SGND (power), G3 SGND (power), G4 PGND (power), G5 PGND (power), G6 PGND (power), G7 PGND (power), G8 PGND (power), G9 PGND (power), G10 PGND (power), G12 VIN (in), G13 VIN (in), G14 VIN (in), H1 ADR1, H2 SGND (power), H3 SGND (power), H4 PGND (power), H5 PGND (power), H6 PGND (power), H7 PGND (power), H8 PGND (power), H9 PGND (power), H10 PGND (power), H12 VIN (in), H13 VIN (in), H14 VIN (in), J1 SGND (power), J2 SGND (power), J3 SGND (power), J4 PGND (power), J5 PGND (power), J6 PGND (power), J7 PGND (power), J8 PGND (power), J9 PGND (power), J10 PGND (power), J12 VIN (in), J13 VIN (in), J14 VIN (in), K1 SGND (power), K2 SGND (power), K3 NC (power), K4 SYNCO (in), K5 SYNCI (out), K6 PGND (power), K7 PGND (power), K8 PGND (power), K9 PGND (power), K10 PGND (power), K12 VIN (in), K13 VIN (in), K14 VIN (in)

## PT6300
designator IC?
3A Adjustable Positive Step-down Integrated Switching Regulator
pins: 1 INH (in), 2 VIN (in), 3 VIN (in), 4 VIN (in), 5 GND (power), 6 GND (power), 7 GND (power), 8 GND (power), 9 VOUT (power), 10 VOUT (power), 11 VOUT (power), 12 ADJ (in)

## PTD08A010W
designator IC?
10-A, 4.75-V to 14-V Input, Non-Isolated, Wide-Output, Digital POWERTRAIN Module
pins: 1 VIN (in), 2 GND (power), 3 GND (power), 4 OUT (power), 5 TEMP (out), 6 IOUT (out), 7 AGND (power), 8 INH (in), 9 FAULT (out), 10 SRE (in), 11 PWM (in), 12 VBIAS (in)

## PTD08A020W
designator IC?
20-A, 4.75-V to 14-V Input, Non-Isolated, Wide-Output, Digital POWERTRAIN Module
pins: 1 VIN (in), 2 GND (power), 3 GND (power), 4 OUT (power), 5 TEMP (out), 6 IOUT (out), 7 AGND (power), 8 INH (in), 9 FAULT (out), 10 SRE (in), 11 PWM (in), 12 VBIAS (in)

## PTD08D210W
designator IC?
Dual 10-A, 4.75-V to 14-V Input, Non-Isolated, Digital POWERTRAIN Module
pins: 1 VIN (in), 2 VIN (in), 3 PGND (power), 4 PWMB (in), 5 SREB (in), 6 ISENSEB (out), 7 FAULTB (out), 8 PGND (power), 9 PGND (power), 10 VOUTB (power), 11 VOUTB (power), 12 AGND (power), 13 AGND (power), 14 ISENSEA (out), 15 FAULTA (out), 16 TSENSE (out), 17 SREA (in), 18 PWMA (in), 19 PGND (power), 20 PGND (power), 21 VOUTA (power), 22 VOUTA (power), 23 PGND (power)

## PTH04T230W
designator IC?
6-A, 2.2-V to 5.5-V Input, Non-Isolated, Wide-Output, Adjustable Power Modue With TurboTrans
pins: 1 SYNC (in), 2 VI (in), 3 GND (power), 4 VO (power), 5 +Sense (in), 6 -Sense (in), 7 VOadj (in), 8 TT (in), 9 Auto Track (in), 10 INH/UVLO (in)

## PTH08T220W
designator IC?
16A, 4.5V to 14V Input, Non-Isolated, Wide Output Adjustable Power Module With TurboTrans
pins: 1 SYNC (in), 2 VI (in), 3 GND (power), 4 GND (power), 5 VO (power), 6 +Sense (in), 7 -Sense (in), 8 VOadj (in), 9 TT (in), 10 Track (in), 11 INH/UVLO (in)

## PTH08T240W
designator IC?
10A, 4.5V to 14V Input, Non-Isolated, Wide Output Adjustable Power Module With TurboTrans
pins: 1 SYNC (in), 2 VI (in), 3 GND (power), 4 GND (power), 5 VO (power), 6 +Sense (in), 7 -Sense (in), 8 VOadj (in), 9 TT (in), 10 Track (in), 11 INH/UVLO (in)

## PTH12050
designator IC?
6-A, 12-V Input, Non-Isolated, Wide-Output 1.2V to 5.5V, Adjustable Power Modue
pins: 1 GND (power), 2 Track (in), 3 VI (in), 4 ~{Inhibit} (in), 5 VOadj (in), 6 VO (power)

## PTN78000A
designator IC?
7V To 29V Input, 1.5A,-15V To -3V Output, Adjustable Buck-Boost Switching Regulator
pins: 1 VO (power), 2 VI (in), 3 N/C, 4 VOadj (in), 5 GND (power)

## PTN78020WAD
designator IC?
6A, Wide-Input, Adjustable Switching Regulator Module
pins: 1 GND (power), 2 VI (in), 3 ~{INH} (in), 4 VOADJ (in), 5 VOSENSE (in), 6 VO (power), 7 GND (power)

## PTN78060W
designator IC?
3A, Wide-Input, Adjustable Switching Regulator Module
pins: 1 GND (power), 2 VI (in), 3 ~{INH} (in), 4 VOADJ (in), 5 VOSENSE (in), 6 VO (power), 7 GND (power)

## REF01CSZ
designator IC?
Precision Voltage Reference
pins: 1 NC, 2 IN (in), 3 TEMP, 4 GND (power), 5 TRIM, 6 OUT (power), 7 NC, 8 NC

## REF01HPZ
designator IC?
Precision Voltage Reference
pins: 1 NC, 2 IN (in), 3 TEMP, 4 GND (power), 5 TRIM, 6 OUT (power), 7 NC, 8 NC

## REF02CPZ
designator IC?
Precision Voltage Reference/Temperature Transducer
pins: 1 NC, 2 IN (in), 3 TEMP, 4 GND (power), 5 TRIM, 6 OUT (power), 7 NC, 8 NC

## REF02CSZ
designator IC?
Precision Voltage Reference/Temperature Transducer
pins: 1 NC, 2 IN (in), 3 TEMP, 4 GND (power), 5 TRIM, 6 OUT (power), 7 NC, 8 NC

## REF19x
designator IC?
Precision Micropower, Low Dropout Voltage Reference
pins: 1 TP, 2 Vs (in), 3 ~{SLEEP}, 4 GND (power), 5 TP, 6 OUT (power), 7 NC, 8 NC

## REF50
designator IC?
Low-Noise, Very Low Drift, Precision Voltage Reference
pins: 1 NC, 2 IN (in), 3 TEMP, 4 GND (power), 5 TRIM, 6 OUT (power), 7 NC, 8 NC

## REF102
designator IC?
Precision Voltage Reference
pins: 1 NC, 2 V+ (in), 3 NC, 4 GND (power), 5 TRIM, 6 OUT (power), 7 NC, 8 NR

## REF200
designator IC?
Dual Current Source and Current Sink
pins: 1 I1- (power), 2 I2-, 3 Mirror Common (in), 4 Mirror Output (out), 5 Mirror Input (in), 6 Substrate (in), 7 I2+, 8 I1+ (power)
text: Mirror In; Mirror Out; COM; SUB

## REF1004
designator IC?
Micropower Voltage REference
pins: 4 A, 6 C, 8 C

## REG3 1ADJ-2IN-3OUT
designator IC?
3-Terminal Regulator 1=Adj 2=IN 3=OUT
pins: 1 ADJ (power), 2 IN (in), 3 OUT (power)

## REG3 1ADJ-2OUT-3IN
designator IC?
3-Terminal Regulator 1=Adj 2=OUT 3=IN
pins: 1 ADJ (power), 2 OUT (power), 3 IN (in)

## REG3 1GND-2IN-3OUT
designator IC?
3-Terminal Regulator 1=GND 2=IN 3=OUT
pins: 1 GND (power), 2 IN (in), 3 OUT (power)

## REG3 1GND-2OUT-3IN
designator IC?
3-Terminal Regulator 1=GND 2=OUT 3=IN
pins: 1 GND (power), 2 OUT (power), 3 IN (in)

## REG3 1IN-2GND-3OUT
designator IC?
3-Terminal Regulator 1=IN 2=GND 3=OUT
pins: 1 IN (in), 2 GND (power), 3 OUT (power)

## REG3 1IN-2OUT-3GND
designator IC?
3-Terminal Regulator 1=IN 2=OUT 3=GND
pins: 1 IN (in), 2 OUT (power), 3 GND (power)

## REG3 1OUT-2GND-3IN
designator IC?
3-Terminal Regulator 1=OUT 2=GND 3=IN
pins: 1 OUT (power), 2 GND (power), 3 IN (in)

## REG3 1OUT-2IN-3GND
designator IC?
3-Terminal Regulator 1=OUT 2=IN 3=GND
pins: 1 OUT (power), 2 IN (in), 3 GND (power)

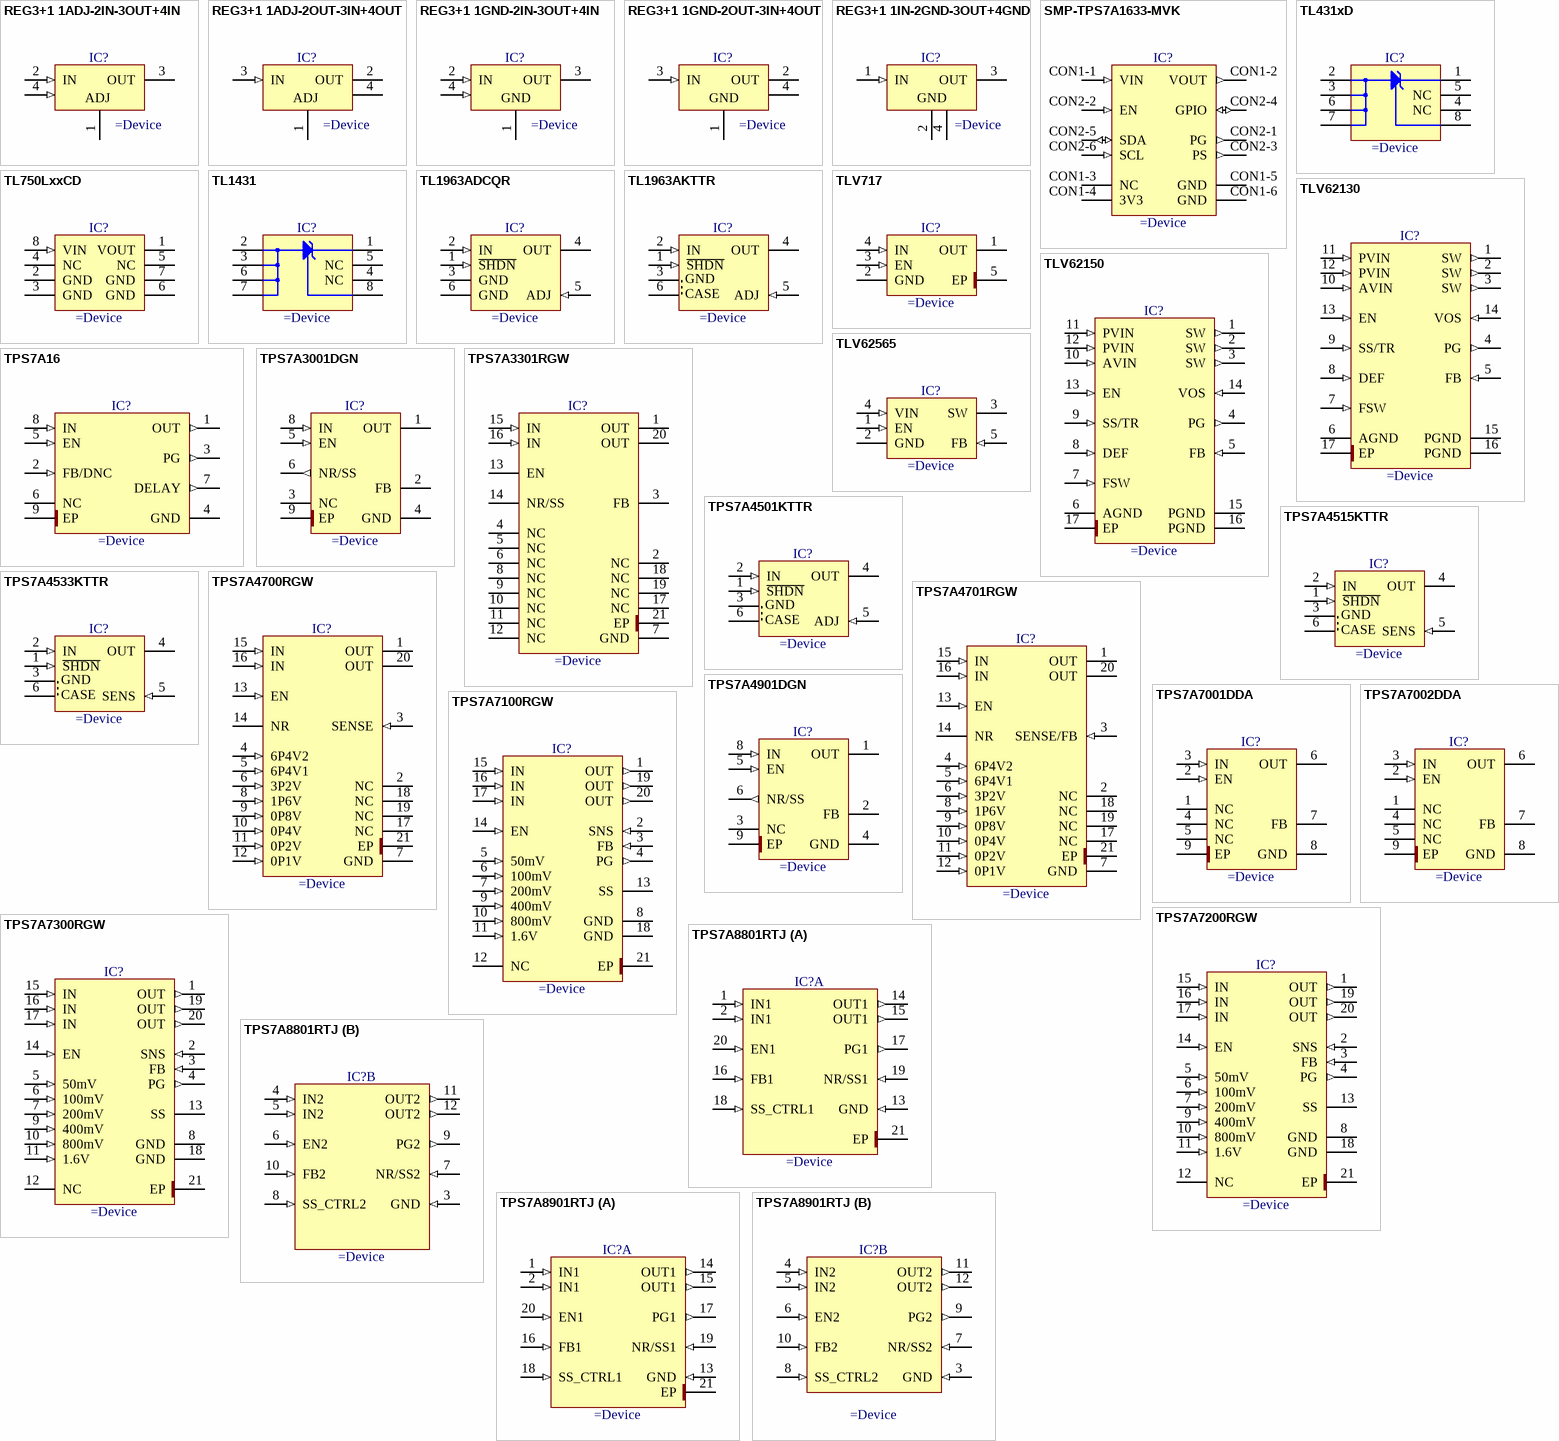
[diagram p9: symbols REG3+1 1ADJ-2IN-3OUT+4IN to TPS7A8901RTJ]

## REG3+1 1ADJ-2IN-3OUT+4IN
designator IC?
3-Terminal Regulator 1=Adj 2=IN 3=OUT 4=IN
pins: 1 ADJ (power), 2 IN (in), 3 OUT (power), 4 IN (in)

## REG3+1 1ADJ-2OUT-3IN+4OUT
designator IC?
3-Terminal Regulator 1=Adj 2=OUT 3=IN 4=OUT
pins: 1 ADJ (power), 2 OUT (power), 3 IN (in), 4 OUT (power)

## REG3+1 1GND-2IN-3OUT+4IN
designator IC?
3-Terminal Regulator 1=GND 2=IN 3=OUT 4=IN
pins: 1 GND (power), 2 IN (in), 3 OUT (power), 4 IN (in)

## REG3+1 1GND-2OUT-3IN+4OUT
designator IC?
3-Terminal Regulator 1=GND 2=OUT 3=IN 4=OUT
pins: 1 GND (power), 2 OUT (power), 3 IN (in), 4 OUT (power)

## REG3+1 1IN-2GND-3OUT+4GND
designator IC?
3-Terminal Regulator 1=IN 2=GND 3=OUT 4=GND
pins: 1 IN (in), 2 GND (power), 3 OUT (power), 4 GND (power)

## SMP-TPS7A1633-MVK
designator IC?
Modular And Versatile Reference Kit (MAVRK) TPS7A1633 Low-Dropout Linear Regulator (LDO) Submodule
pins: CON1-1 VIN (in), CON1-2 VOUT (out), CON1-3 NC, CON1-4 3V3, CON1-5 GND (power), CON1-6 GND (power), CON2-1 PG (out), CON2-2 EN (in), CON2-3 PS (out), CON2-4 GPIO (io), CON2-5 SDA (io), CON2-6 SCL (in)

## TL431xD
designator IC?
Precision Programmable Reference
pins: 1 C, 2 A, 3 A, 4 NC, 5 NC, 6 A, 7 A, 8 REF

## TL750LxxCD
designator IC?
Low-Dropout Voltage Regulators
pins: 1 VOUT (power), 2 GND (power), 3 GND (power), 4 NC, 5 NC, 6 GND (power), 7 GND (power), 8 VIN (in)

## TL1431
designator IC?
Precision Programmable Reference
pins: 1 C, 2 A, 3 A, 4 NC, 5 NC, 6 A, 7 A, 8 REF

## TL1963ADCQR
designator IC?
1.2V to 20V, 1.5A, Fast Transient Response, Low Noise, LDO Adjustable Regulator
pins: 1 ~{SHDN} (in), 2 IN (in), 3 GND (power), 4 OUT (power), 5 ADJ (in), 6 GND (power)

## TL1963AKTTR
designator IC?
1.21V to 20V, 1.5A Low-Noise Fast-Transient-Response Low-Dropout Adjustable Regulator
pins: 1 ~{SHDN} (in), 2 IN (in), 3 GND (power), 4 OUT (power), 5 ADJ (in), 6 CASE (power)

## TLV717
designator IC?
150-mA, Low-Dropout Regulator with Foldback Current Limit for Portable Device
pins: 1 OUT (power), 2 GND (power), 3 EN (in), 4 IN (in), 5 EP (power)

## TLV62130
designator IC?
4-17V 3A Step-Down Converter with DCS-Control
pins: 1 SW (out), 2 SW (out), 3 SW (out), 4 PG (out), 5 FB (in), 6 AGND (power), 7 FSW (in), 8 DEF (in), 9 SS/TR (in), 10 AVIN (in), 11 PVIN (in), 12 PVIN (in), 13 EN (in), 14 VOS (in), 15 PGND (power), 16 PGND (power), 17 EP (power)

## TLV62150
designator IC?
4-17V 1A Step-Down Converter with DCS-Control
pins: 1 SW (out), 2 SW (out), 3 SW (out), 4 PG (out), 5 FB (in), 6 AGND (power), 7 FSW (in), 8 DEF (in), 9 SS/TR (in), 10 AVIN (in), 11 PVIN (in), 12 PVIN (in), 13 EN (in), 14 VOS (in), 15 PGND (power), 16 PGND (power), 17 EP (power)

## TLV62565
designator IC?
1.5A High Efficiency Step-Down Converter, Adjustable Output Voltage
pins: 1 EN (in), 2 GND (power), 3 SW (power), 4 VIN (in), 5 FB (in)

## TPS7A16
designator IC?
3V to 60V, 5-μAIQ, 100-mA, Low-Dropout Voltage Regulator With Enable And Power-Good
pins: 1 OUT (out), 2 FB/DNC (in), 3 PG (out), 4 GND (power), 5 EN (in), 6 NC, 7 DELAY (out), 8 IN (in), 9 EP (power)

## TPS7A3001DGN
designator IC?
-36V, -200mA, Ultralow-Noise, Negative Linear Regulator
pins: 1 OUT (power), 2 FB, 3 NC, 4 GND (power), 5 EN (in), 6 NR/SS (out), 8 IN (in), 9 EP (power)

## TPS7A3301RGW
designator IC?
-1.18V to -33V -1A, Ultra-Low Noise, High PSRR, Low-Dropout Linear Regulator
pins: 1 OUT (power), 2 NC, 3 FB, 4 NC, 5 NC, 6 NC, 7 GND (power), 8 NC, 9 NC, 10 NC, 11 NC, 12 NC, 13 EN, 14 NR/SS, 15 IN (in), 16 IN (in), 17 NC, 18 NC, 19 NC, 20 OUT (power), 21 EP (power)

## TPS7A4501KTTR
designator IC?
1.21V to 20V Low-Noise Fast-Transient-Response 1.5-A Low-Dropout Voltage Regulator
pins: 1 ~{SHDN} (in), 2 IN (in), 3 GND (power), 4 OUT (power), 5 ADJ (in), 6 CASE (power)

## TPS7A4515KTTR
designator IC?
1.5V Low-Noise Fast-Transient-Response 1.5A Low-Dropout Voltage Regulator
pins: 1 ~{SHDN} (in), 2 IN (in), 3 GND (power), 4 OUT (power), 5 SENS (in), 6 CASE (power)

## TPS7A4533KTTR
designator IC?
3.3V Low-Noise Fast-Transient-Response 1.5A Low-Dropout Voltage Regulator
pins: 1 ~{SHDN} (in), 2 IN (in), 3 GND (power), 4 OUT (power), 5 SENS (in), 6 CASE (power)

## TPS7A4700RGW
designator IC?
Low Noise (3uVrms), 1A, High Voltage Low-Dropout Linear Regulator
pins: 1 OUT (power), 2 NC, 3 SENSE (in), 4 6P4V2 (in), 5 6P4V1 (in), 6 3P2V (in), 7 GND (power), 8 1P6V (in), 9 0P8V (in), 10 0P4V (in), 11 0P2V (in), 12 0P1V (in), 13 EN (in), 14 NR, 15 IN (in), 16 IN (in), 17 NC, 18 NC, 19 NC, 20 OUT (power), 21 EP (power)

## TPS7A4701RGW
designator IC?
Low Noise (3uVrms), 1A, High Voltage Low-Dropout Linear Regulator
pins: 1 OUT (power), 2 NC, 3 SENSE/FB (in), 4 6P4V2 (in), 5 6P4V1 (in), 6 3P2V (in), 7 GND (power), 8 1P6V (in), 9 0P8V (in), 10 0P4V (in), 11 0P2V (in), 12 0P1V (in), 13 EN (in), 14 NR, 15 IN (in), 16 IN (in), 17 NC, 18 NC, 19 NC, 20 OUT (power), 21 EP (power)

## TPS7A4901DGN
designator IC?
+36V, +150mA, Ultralow-Noise, Positive Linear Regulator
pins: 1 OUT (power), 2 FB, 3 NC, 4 GND (power), 5 EN (in), 6 NR/SS (out), 8 IN (in), 9 EP (power)

## TPS7A7001DDA
designator IC?
0.9V To 5V, 2A, Very Low Input, Very Low Dropout, Adjustable Regulator With Enable
pins: 1 NC, 2 EN (in), 3 IN (in), 4 NC, 5 NC, 6 OUT (power), 7 FB, 8 GND (power), 9 EP (power)

## TPS7A7002DDA
designator IC?
0.9V To 5V, 3A, Very Low Input, Very Low Dropout, Adjustable Regulator With Enable
pins: 1 NC, 2 EN (in), 3 IN (in), 4 NC, 5 NC, 6 OUT (power), 7 FB, 8 GND (power), 9 EP (power)

## TPS7A7100RGW
designator IC?
1-A, Fast-Transient, Low-Dropout Voltage Regulator
pins: 1 OUT (out), 2 SNS (in), 3 FB (in), 4 PG (out), 5 50mV (in), 6 100mV (in), 7 200mV (in), 8 GND (power), 9 400mV (in), 10 800mV (in), 11 1.6V (in), 12 NC, 13 SS, 14 EN (in), 15 IN (in), 16 IN (in), 17 IN (in), 18 GND (power), 19 OUT (out), 20 OUT (out), 21 EP (power)